# Altium schematic symbol library W25Q128JVPIQ.SchLib: 1 symbol
Pins are listed as number, name and electrical type; pins without a type are passive.

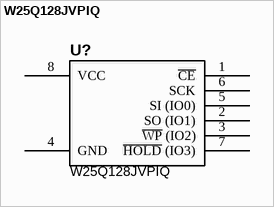
[diagram p0: symbol W25Q128JVPIQ]

## W25Q128JVPIQ
designator U?
IC FLASH 128MBIT SPI/QUAD 8WSON; Manufacturer: Winbond; Manufacturer Part Number: W25Q128JVPIQ; JLCPCB Part #: W25Q128JVPIQ; Value: W25Q128JVPIQ
footprint SON127P600X80_HS-9N
pins: 1 ~{CE}, 2 SO (IO1), 3 ~{WP} (IO2), 4 GND, 5 SI (IO0), 6 SCK, 7 ~{HOLD} (IO3), 8 VCC